# EAGLE library part NX3DV42GU,115 (library NX3DV42GU_115)
USB Switch ICs NX3DV42GU/XQFN10///REEL 7 Q1/T1 *STANDARD MARK SM Source: Datasheet <http://www.nxp.com/docs/en/data-sheet/NX3DV42.pdf>
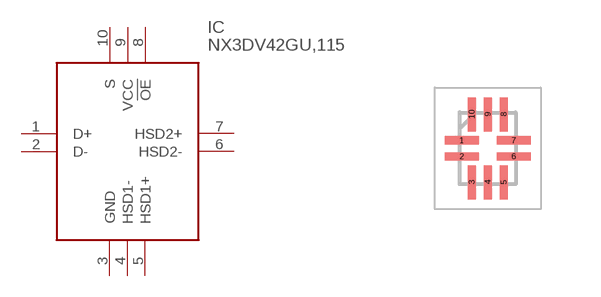
[diagram p0: symbol with the pads of QFN40P140X180X50-10N; footprint QFN40P140X180X50-10N]

Designator prefix IC

## NX3DV42GU,115 (Description: USB Switch ICs NX3DV42GU/XQFN10///REEL 7 Q1/T1 *STANDARD MARK SM; Height: 0.5mm; Manufacturer_Name: NXP; Manufacturer_Part_Number: NX3DV42GU,115; Mouser_Part_Number: 771-NX3DV42GU115; Mouser_Price-Stock: https://www.mouser.co.uk/ProductDetail/NXP-Semiconductors/NX3DV42GU115?qs=cbprxTG2Yq%252BinzuyAklGVQ%3D%3D)  [QFN40P140X180X50-10N]
1  D+
2  D-
3  GND
4  HSD1-
5  HSD1+
6  HSD2-
7  HSD2+
8  !OE
9  VCC
10  S

## Footprint QFN40P140X180X50-10N (pad centres in mm)
SOT1160-1
smd 0.85 x 0.2: 1 -0.65,0.2; 2 -0.65,-0.2; 6 0.65,-0.2; 7 0.65,0.2
smd 0.2 x 0.85: 3 -0.4,-0.85; 4 0,-0.85; 5 0.4,-0.85; 8 0.4,0.85; 9 0,0.85; 10 -0.4,0.85